# Altium footprint library new-version.PcbLib: 241 footprints (part 6 of 16)
Each footprint in its own frame and in the unit in brackets; x right, y up, seen from the top. Pads: shape width x height; smd on the part's side, far side on the other; paste and mask are expansions set on the pad; w line width, h text height; cw(c..) or ccw(c..) is an arc to the next point about the centre after c.
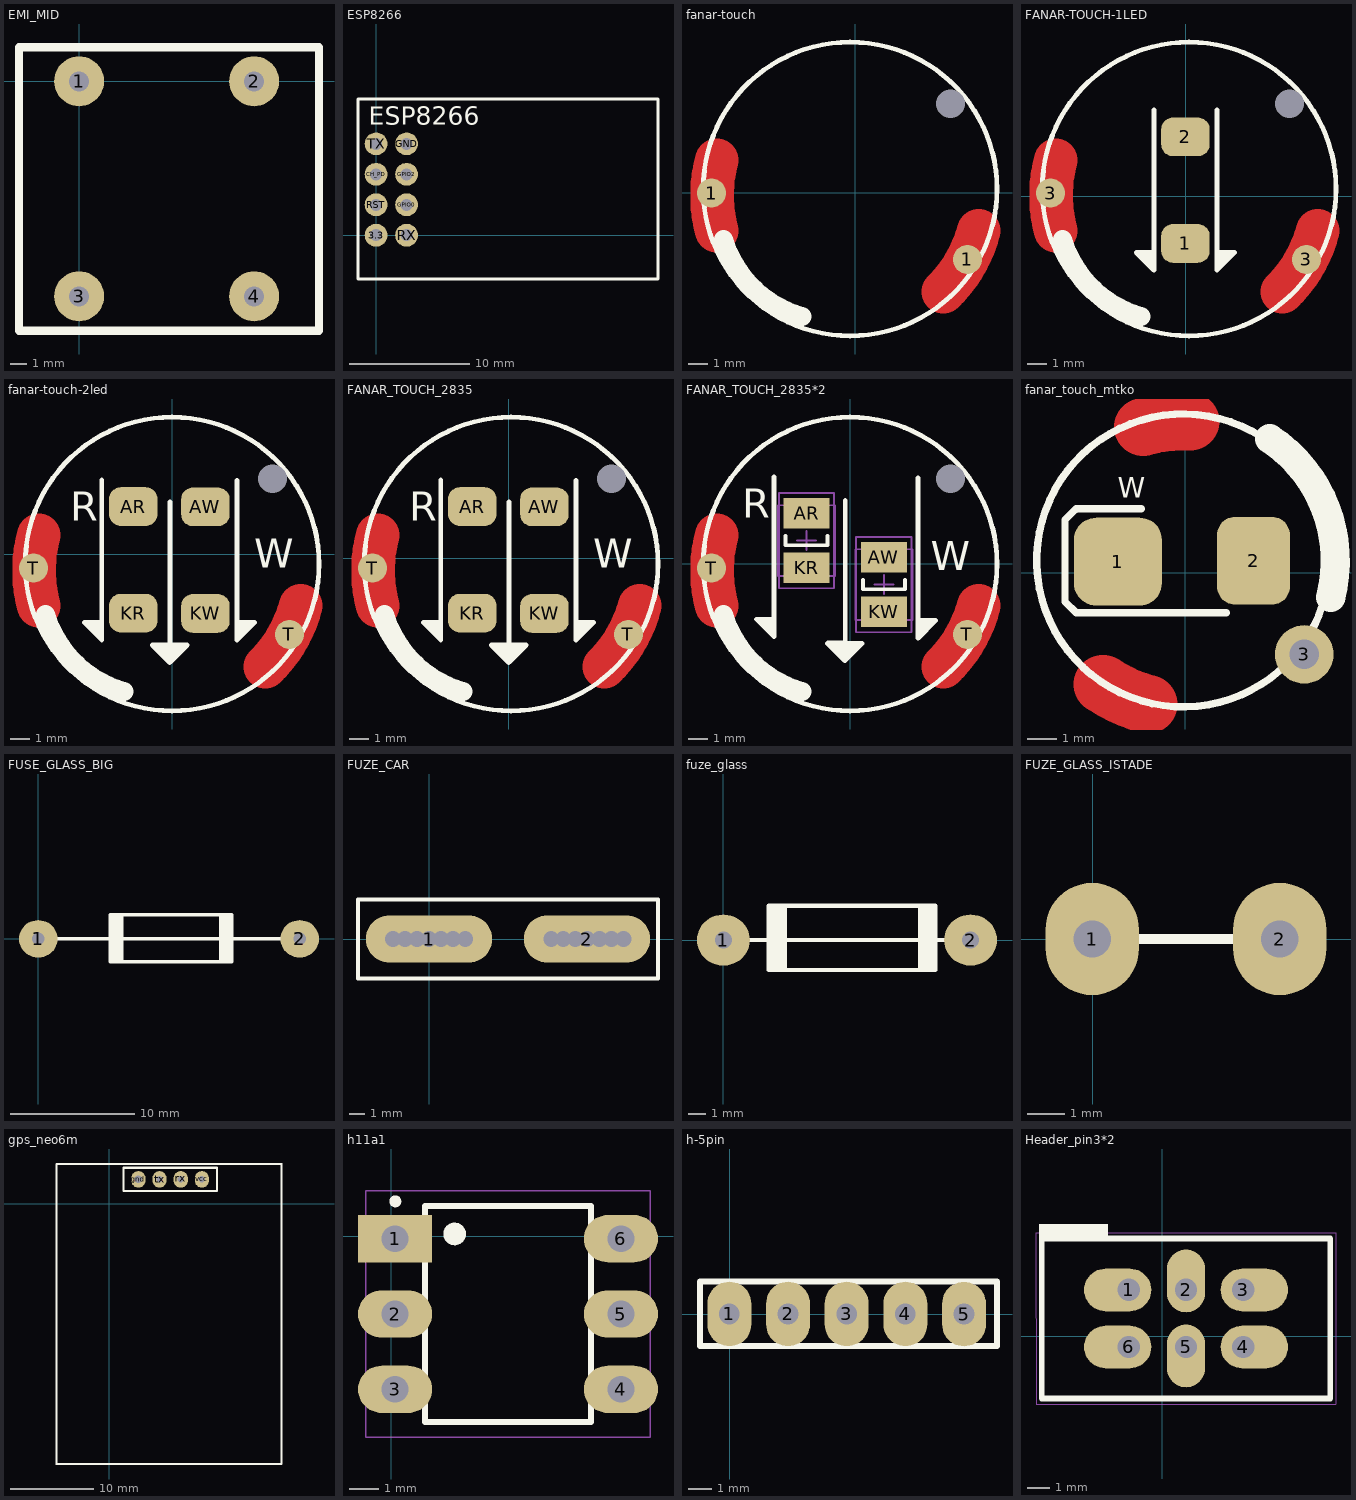
[diagram p5: the footprints below, top view; thin cyan lines are the x and y axes]

## EMI_MID [mm]
pads (4):
  round 3 hole 1.2: 1(0,0) 2(10.5,0) 3(0,-12.9) 4(10.5,-12.9)
Top Overlay:
  lines w0.5: -3.607,-14.961 -3.607,2.039 14.393,2.039 14.393,-14.961 -3.607,-14.961

## ESP8266 [mm]
pads (8):
  round 1.9 hole 1: 3.3(0,0) CH_PD(0,5.08) GND(2.54,7.62) GPIO0(2.54,2.54) GPIO2(2.54,5.08) RST(0,2.54) RX(2.54,0) TX(0,7.62)
Top Overlay:
  lines w0.254: -1.512,-3.646 -1.512,11.354 23.488,11.354 23.488,-3.646 22.697,-3.646 -1.512,-3.646
  text "ESP8266" at -0.597,9.227 h1.52

## fanar-touch [mil]
pads (3):
  round 60 smd paste-60: 1(-296.59,-0.87) 1(231.39,-137.96)
  oct 0x0 hole 59.06: 5(196.51,183.17)
Top Layer:
  lines w90: -286.06,66.4 ccw(c-15.61,-6.07) -285.95,-78.97 ; 181.76,-204.68 ccw(c-15.61,-6.07) 254.85,-78.54
Top Overlay:
  circle w10: c-10.67,7.46 r303.15
  lines w39.37: -272,-96.51 ccw(c-45.84,-28.3) -110.2,-255.59
Top Solder:
  lines w82.68: -291.35,-54.69 cw(c-15.61,-6.07) -291.35,42.55 ; 198.89,-186.05 ccw(c-15.61,-6.07) 247.51,-101.84
3D body "f3.stp": height 633.82, standoff -188.72, extent -393.95,-370.56 370.56,396.57

## FANAR-TOUCH-1LED [mil]
pads (5):
  rrect60% 100x80 smd: 1(-0.75,-97.59) 2(-0.75,122.41)
  round 60 smd paste-60: 3(-279.17,6.33) 3(248.81,-130.76)
  oct 0x0 hole 59.06: 5(213.93,190.37)
Top Layer:
  lines w90: -268.64,73.6 ccw(c1.81,1.13) -268.53,-71.77 ; 199.18,-197.48 ccw(c1.81,1.13) 272.27,-71.34
Top Overlay:
  circle w10: c6.75,14.67 r303.15
  region: -65.75,-116.59 -65.75,-152.59 -101.75,-116.59
  region: 64.25,-152.59 100.25,-116.59 64.25,-116.59
  lines w10: -65.75,-116.59 -101.75,-116.59 -65.75,-152.59 -65.75,-52.37 -65.75,77.63 -65.75,177.41 ; 64.25,-116.59 100.25,-116.59 64.25,-152.59 64.25,-52.37 64.25,77.63 64.25,177.41
  lines w39.37: -254.58,-89.31 ccw(c-28.42,-21.1) -92.78,-248.38
Top Solder:
  lines w82.68: -273.93,-47.49 cw(c1.81,1.13) -273.93,49.75 ; 216.31,-178.85 ccw(c1.81,1.13) 264.93,-94.64
3D body "f3.stp": height 633.82, standoff -188.72, extent -376.53,-363.35 387.98,403.77

## fanar-touch-2led [mil]
pads (7):
  oct 0x0 hole 59.06: 5(206.71,156.04)
  rrect60% 100x80 smd: AR(-80.55,98.79) AW(68.32,98.28) KR(-80.55,-121.21) KW(68.32,-121.72)
  round 60 smd paste-60: T(-286.39,-27.99) T(241.59,-165.09)
Top Layer:
  lines w90: -275.86,39.27 ccw(c-5.4,-33.2) -275.75,-106.1 ; 191.96,-231.81 ccw(c-5.4,-33.2) 265.05,-105.67
Top Overlay:
  circle w10: c-0.47,-19.66 r303.15
  region: 133.32,-176.72 169.32,-140.72 133.32,-140.72
  region: -145.55,-140.21 -145.55,-176.21 -181.55,-140.21
  region: -4.45,-222.07 31.55,-186.07 -4.45,-186.07
  region: -41.67,-182.06 -5.67,-218.06 -5.67,-182.06
  lines w10: -145.55,-140.21 -181.55,-140.21 -145.55,-176.21 -145.55,-75.99 -145.55,54.01 -145.55,153.79 ; -4.45,-186.91 -41.42,-186.91 -5.42,-222.91 -5.42,-186.91 30.72,-186.91 -4.45,-222.07 -4.45,-121.86 -4.45,8.14 -4.45,107.93 ; 133.32,-140.72 169.32,-140.72 133.32,-176.72 133.32,-76.5 133.32,53.5 133.32,153.28
  lines w39.37: -261.8,-123.64 ccw(c-35.64,-55.42) -100,-282.71
  text "W" at 168.69,-27.02 h60
  text "R" at -211.09,69.33 h60
Top Solder:
  lines w82.68: -281.15,-81.82 cw(c-5.4,-33.2) -281.15,15.42 ; 209.09,-213.18 ccw(c-5.4,-33.2) 257.71,-128.96
3D body "f3.stp": height 633.82, standoff -188.72, extent -383.75,-397.68 380.76,369.45

## FANAR_TOUCH_2835 [mil]
pads (7):
  oct 0x0 hole 59.06: 5(212.1,163.87)
  rrect60% 100x80 smd: AR(-75.16,106.62) AW(73.71,106.11) KR(-75.16,-113.38) KW(73.71,-113.89)
  round 60 smd paste-60: T(-280.99,-20.16) T(246.98,-157.26)
Top Layer:
  lines w90: -270.47,47.1 ccw(c-0.01,-25.37) -270.35,-98.26 ; 197.36,-223.98 ccw(c-0.01,-25.37) 270.45,-97.84
Top Overlay:
  circle w10: c4.92,-11.83 r303.15
  region: 138.71,-168.89 174.71,-132.89 138.71,-132.89
  region: -140.16,-132.38 -140.16,-168.38 -176.16,-132.38
  region: 0.95,-214.24 36.95,-178.24 0.95,-178.24
  region: -36.28,-174.23 -0.28,-210.23 -0.28,-174.23
  lines w10: -140.16,-132.38 -176.16,-132.38 -140.16,-168.38 -140.16,-68.16 -140.16,61.84 -140.16,161.62 ; 0.95,-179.08 -36.02,-179.08 -0.02,-215.08 -0.02,-179.08 36.11,-179.08 0.95,-214.24 0.95,-114.03 0.95,15.97 0.95,115.76 ; 138.71,-132.89 174.71,-132.89 138.71,-168.89 138.71,-68.67 138.71,61.33 138.71,161.11
  lines w39.37: -256.4,-115.81 ccw(c-30.25,-47.59) -94.6,-274.88
  text "W" at 174.09,-19.19 h60
  text "R" at -205.7,77.16 h60
Top Solder:
  lines w82.68: -275.76,-73.99 cw(c-0.01,-25.37) -275.76,23.26 ; 214.48,-205.35 ccw(c-0.01,-25.37) 263.1,-121.13
3D body "f3.stp": height 633.82, standoff -188.72, extent -378.35,-389.85 386.15,377.28

## FANAR_TOUCH_2835*2 [mm]
pads (7):
  oct 0x0 hole 1.5: 5(5.243,4.44)
  rect 2.4x1.6 smd: AR(-2.304,2.633) AW(1.751,0.326) KR(-2.304,-0.217) KW(1.751,-2.524)
  round 1.524 smd paste-1.524: T(-7.281,-0.235) T(6.129,-3.717)
Top Layer:
  lines w2.286: -7.014,1.474 ccw(c-0.144,-0.367) -7.011,-2.218 ; 4.869,-5.411 ccw(c-0.144,-0.367) 6.725,-2.207
Top Overlay:
  circle w0.254: c-0.019,-0.023 r7.7
  region: 3.54,-3.903 4.454,-2.989 3.54,-2.989
  region: -4.005,-2.915 -4.005,-3.829 -4.919,-2.915
  region: -0.276,-5.075 0.638,-4.16 -0.276,-4.16
  region: -1.222,-4.058 -0.307,-4.973 -0.307,-4.058
  lines w0.2: -3.404,1.458 -3.404,0.958 -1.204,0.958 -1.204,1.458 ; 0.651,-0.849 0.651,-1.349 2.851,-1.349 2.851,-0.849
  lines w0.254: -4.005,-2.915 -4.919,-2.915 -4.005,-3.829 -4.005,-1.284 -4.005,2.018 -4.005,4.553 ; -0.276,-4.182 -1.215,-4.182 -0.301,-5.096 -0.301,-4.182 0.617,-4.182 -0.276,-5.075 -0.276,-2.529 -0.276,0.773 -0.276,3.307 ; 3.54,-2.989 4.454,-2.989 3.54,-3.903 3.54,-1.358 3.54,1.944 3.54,4.479
  lines w1: -6.657,-2.664 ccw(c-0.912,-0.931) -2.547,-6.704
  text "W" at 4.205,-0.359 h1.52
  text "R" at -5.67,2.407 h1.52
Top Solder:
  lines w2.1: -7.148,-1.602 cw(c-0.144,-0.367) -7.148,0.868 ; 5.304,-4.938 ccw(c-0.144,-0.367) 6.539,-2.799
Mechanical 13:
  lines w0.1: -3.804,-0.642 -0.804,-0.642 -0.804,3.058 -3.804,3.058 -3.804,-0.642 ; 0.251,-2.949 3.251,-2.949 3.251,0.751 0.251,0.751 0.251,-2.949
Mechanical 15:
  lines w0.1: -2.804,1.208 -1.804,1.208 ; -2.304,0.708 -2.304,1.708 ; 1.251,-1.099 2.251,-1.099 ; 1.751,-1.599 1.751,-0.599 ; -3.754,-1.292 -0.854,-1.292 -0.854,3.708 -3.754,3.708 -3.754,-1.292 ; 0.301,-3.599 3.201,-3.599 3.201,1.401 0.301,1.401 0.301,-3.599
3D body "f3.stp": height 16.1, standoff -4.79, extent -9.754,-9.625 9.664,9.86
3D body "WL-SMTW_3528.stp": height 1.85, standoff -0.05, extent -3.704,-0.542 -0.904,2.958
3D body "WL-SMTW_3528.stp": height 1.85, standoff -0.05, extent 0.351,-2.849 3.151,0.651

## fanar_touch_mtko [mm]
pads (3):
  rrect50% 3x3 smd: 1(-2.301,0.385)
  rrect50% 2.5x3 smd: 2(2.33,0.415)
  round 2 hole 1: 3(4.063,-2.783)
Top Layer:
  lines w2: -2.809,-3.799 ccw(c-0.024,0.354) -1.271,-4.488 ; -1.428,4.99 cw(c-0.046,0.184) 0.161,5.18
Top Overlay:
  circle w0.254: c-0.073,0.425 r5
  lines w0.254: -1.495,2.19 -3.726,2.19 -3.853,2.063 -4.107,1.809 -4.107,-0.985 -3.726,-1.366 1.399,-1.366
  lines w1: 2.885,4.581 cw(c0.123,0.414) 4.964,-0.837
  text "W" at -2.308,2.571 h0.7
Top Solder:
  lines w2: -2.809,-3.799 ccw(c-0.024,0.354) -1.271,-4.488 ; -1.439,4.986 cw(c-0.057,0.181) 0.15,5.177
3D body "led.stp": height 0.7, standoff 0.1, extent -3.17,-1.064 2.83,1.936

## FUSE_GLASS_BIG [mm]
pads (2):
  oval 3.1x3 hole 1: 1(0,0) 2(21,0)
Top Overlay:
  rectangle: 14.536,-1.968 15.609,1.827
  rectangle: 5.776,-1.858 6.849,1.937
  lines w0.254: 0,0 21,0 ; 15.555,-1.824 15.555,-0.078 15.555,1.937 5.776,1.937 5.776,-0.078 5.776,-1.838 15.555,-1.838 15.555,1.866

## FUZE_CAR [mm]
pads (16):
  round 0 hole 1: 1(-2.286,0) 1(-1.524,0) 1(-0.762,0) 1(0,0) 1(0.762,0) 1(1.524,0) 1(2.286,0) 2(7.739,0) 2(8.501,0) 2(9.263,0) 2(10.025,0) 2(10.787,0) 2(11.549,0) 2(12.311,0)
  oval 8x3 all layers, no hole: 1(0,0) 2(10,0)
Top Overlay:
  lines w0.254: -4.5,-2.5 -4.5,2.5 14.5,2.5 14.5,-2.5 -4.5,-2.5

## fuze_glass [mm]
pads (2):
  oval 3.1x3 hole 1: 1(0,0) 2(14.527,0)
Top Overlay:
  rectangle: 11.427,-1.89 12.5,1.905
  rectangle: 2.667,-1.78 3.74,2.015
  lines w0.254: 0.113,0 2.667,0 ; 12.446,-1.746 12.446,0 ; 12.446,1.944 12.446,-1.76 2.667,-1.76 2.667,0 ; 15,0 12.446,0 ; 2.667,0 12.446,0 ; 2.667,0 2.667,2.015 12.446,2.015 12.446,0

## FUZE_GLASS_ISTADE [mm]
pads (2):
  oval 2.5x3 hole 1: 1(-0.011,0) 2(5,0)
Top Overlay:
  lines w0.254: 0.102,0 5,0

## gps_neo6m [mm]
pads (4):
  oval 1.7x2 hole 0.9: gnd(3.487,2.934)
  oval 1.7x2 hole 0.762: rx(8.567,2.934) tx(6.027,2.934) vcc(11.107,2.934)
Top Overlay:
  lines w0.254: -6.344,4.779 -6.344,-31.221 -6.342,-31.223 20.652,-31.223 ; -6.334,4.779 20.66,4.779 20.662,4.777 20.662,-31.223 ; 1.678,1.537 12.913,1.537 12.913,4.331 1.678,4.331 1.678,1.537

## h11a1 [mm]
pads (6):
  rect 2.5x1.6 hole 0.9: 1(0.123,-0.08)
  oval 2.5x1.6 hole 0.9: 2(0.123,-2.62) 3(0.123,-5.16) 4(7.743,-5.16) 5(7.743,-2.62) 6(7.743,-0.08)
Top Overlay:
  circle w0.2: c0.133,1.18 r0.1
  circle w0.2: c2.133,0.08 r0.283
  lines w0.2: 2.133,0.08 1.933,-0.02 ; 1.933,-0.02 2.233,-0.12 2.333,0.08 2.133,0.28 1.933,-0.02 ; 1.133,-6.27 1.133,1.03 6.733,1.03 6.733,-6.27 1.133,-6.27
Mechanical 15:
  lines w0.05: -0.867,-6.77 -0.867,1.53 8.733,1.53 8.733,-6.77 -0.867,-6.77
3D body "H11A1.STP": height 4.75, standoff -2.27, extent -0.7,-6.226 8.897,1.074

## h-5pin [mm]
pads (5):
  oval 1.9x2.8 hole 0.9: 1(-0.009,0.008) 2(2.531,0.008) 3(5.071,0.008) 4(7.611,0.008) 5(10.151,0)
Top Overlay:
  lines w0.254: -1.279,-1.389 11.578,-1.389 11.578,1.405 -1.279,1.405 -1.279,-1.389

## Header_pin3*2 [mm]
pads (6):
  oval 3x1.9 hole 1 copper offset -0.5,0 paste+0 mask+0.102: 1(-1.487,2.062) 6(-1.487,-0.478)
  oval 1.7x2.8 hole 1 copper offset 0,0.4: 2(1.053,2.062)
  oval 3x1.9 hole 1 copper offset 0.5,0 paste+0 mask+0.102: 3(3.593,2.062) 4(3.593,-0.478)
  oval 1.7x2.8 hole 1 copper offset 0,-0.4: 5(1.053,-0.478)
Top Overlay:
  rectangle: -5.5,4.352 -2.41,5
  lines w0.127: -5.377,-2.768 -5.377,4.352 ; -5.377,-2.768 7.483,-2.768 ; -5.377,-2.768 -5.377,4.352 ; -5.377,-2.768 7.483,-2.768 ; -5.377,4.352 7.483,4.352 ; 7.483,-2.768 7.483,4.352 ; 7.483,-2.768 7.483,4.352
  lines w0.254: -5.377,-2.768 -5.377,4.352 7.483,4.352 7.483,-2.768 -5.377,-2.768
Mechanical 16:
  lines w0.05: -5.627,-3.018 7.733,-3.018 7.733,4.602 -5.627,4.602 -5.627,-3.018